# Altium schematic symbol library CD4017BE.SchLib: 1 symbol
Pins are listed as number, name and electrical type; pins without a type are passive.

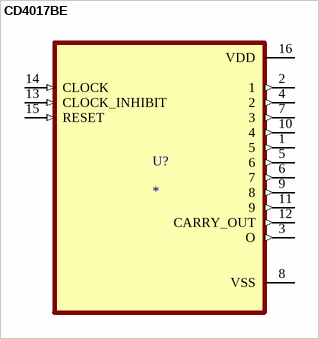
[diagram p0: symbol CD4017BE]

## CD4017BE
designator U?
CMOS Decade Counter with 10 Decoded Outputs; MF: Texas Instruments; MP: CD4017BE; Value: *; Check_prices: https://www.snapeda.com/parts/CD4017BE/Texas+Instruments/view-part/?ref=eda; Availability: In Stock; Package: PDIP-16 Texas Instruments; SnapEDA_Link: https://www.snapeda.com/parts/CD4017BE/Texas+Instruments/view-part/?ref=snap; Purchase-URL: https://pricing.snapeda.com/search/part/CD4017BE/?ref=eda; Price: None
footprint DIP794W45P254L1969H508Q16
pins: 1 5 (out), 2 1 (out), 3 O (out), 4 2 (out), 5 6 (out), 6 7 (out), 7 3 (out), 8 VSS (power), 9 8 (out), 10 4 (out), 11 9 (out), 12 CARRY_OUT (out), 13 CLOCK_INHIBIT (in), 14 CLOCK (in), 15 RESET (in), 16 VDD (power)